# EAGLE library part BMG160 (library MAÑE)
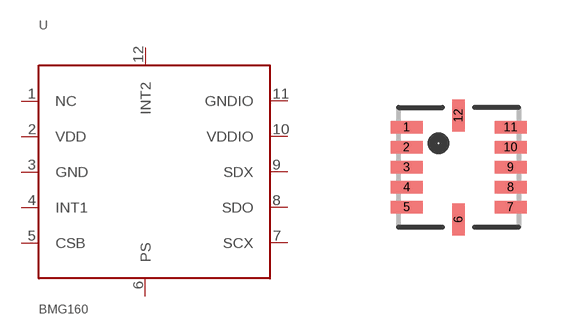
[diagram p24: symbol with the pads of LGA-12; footprint LGA-12]

Designator prefix -

## BMG160  [LGA-12]
1  NC  nc
2  VDD  pwr
3  GND  pwr
4  INT1
5  CSB  in
6  PS  in
7  SCX  in
8  SDO
9  SDX
10  VDDIO  pwr
11  GNDIO  pwr
12  INT2

## Footprint LGA-12 (pad centres in mm)
smd 0.8 x 0.32: 1 -1.3,1; 2 -1.3,0.5; 3 -1.3,0; 4 -1.3,-0.5; 5 -1.3,-1; 7 1.3,-1; 8 1.3,-0.5; 9 1.3,0; 10 1.3,0.5; 11 1.3,1
smd 0.32 x 0.8: 6 0,-1.3; 12 0,1.3